# EAGLE library part 929870-01-09_3 (library 3M_929852_Connector)
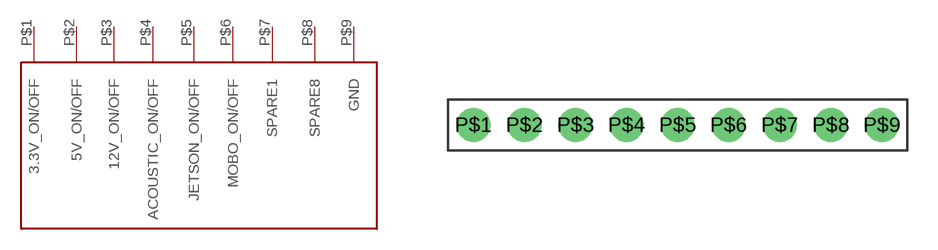
[diagram p2: symbol with the pads of 929852-01-09_1ROW; footprint 929852-01-09_1ROW]

Designator prefix -

## 929870-01-09_3  [929852-01-09_1ROW]
P$1  3.3V_ON/OFF
P$2  5V_ON/OFF
P$3  12V_ON/OFF
P$4  ACOUSTIC_ON/OFF
P$5  JETSON_ON/OFF
P$6  MOBO_ON/OFF
P$7  SPARE1
P$8  SPARE8
P$9  GND

## Footprint 929852-01-09_1ROW (pad centres in mm)
drill 0.889 pad 1.676: P$1 1.27,1.27; P$2 3.81,1.27; P$3 6.35,1.27; P$4 8.89,1.27; P$5 11.43,1.27; P$6 13.97,1.27; P$7 16.51,1.27; P$8 19.05,1.27; P$9 21.59,1.27